# Altium footprint library SMD Active.PcbLib: 72 footprints (part 7 of 8)
Each footprint in its own frame and in the unit in brackets; x right, y up, seen from the top. Pads: shape width x height; smd on the part's side, far side on the other; paste and mask are expansions set on the pad; w line width, h text height; cw(c..) or ccw(c..) is an arc to the next point about the centre after c.
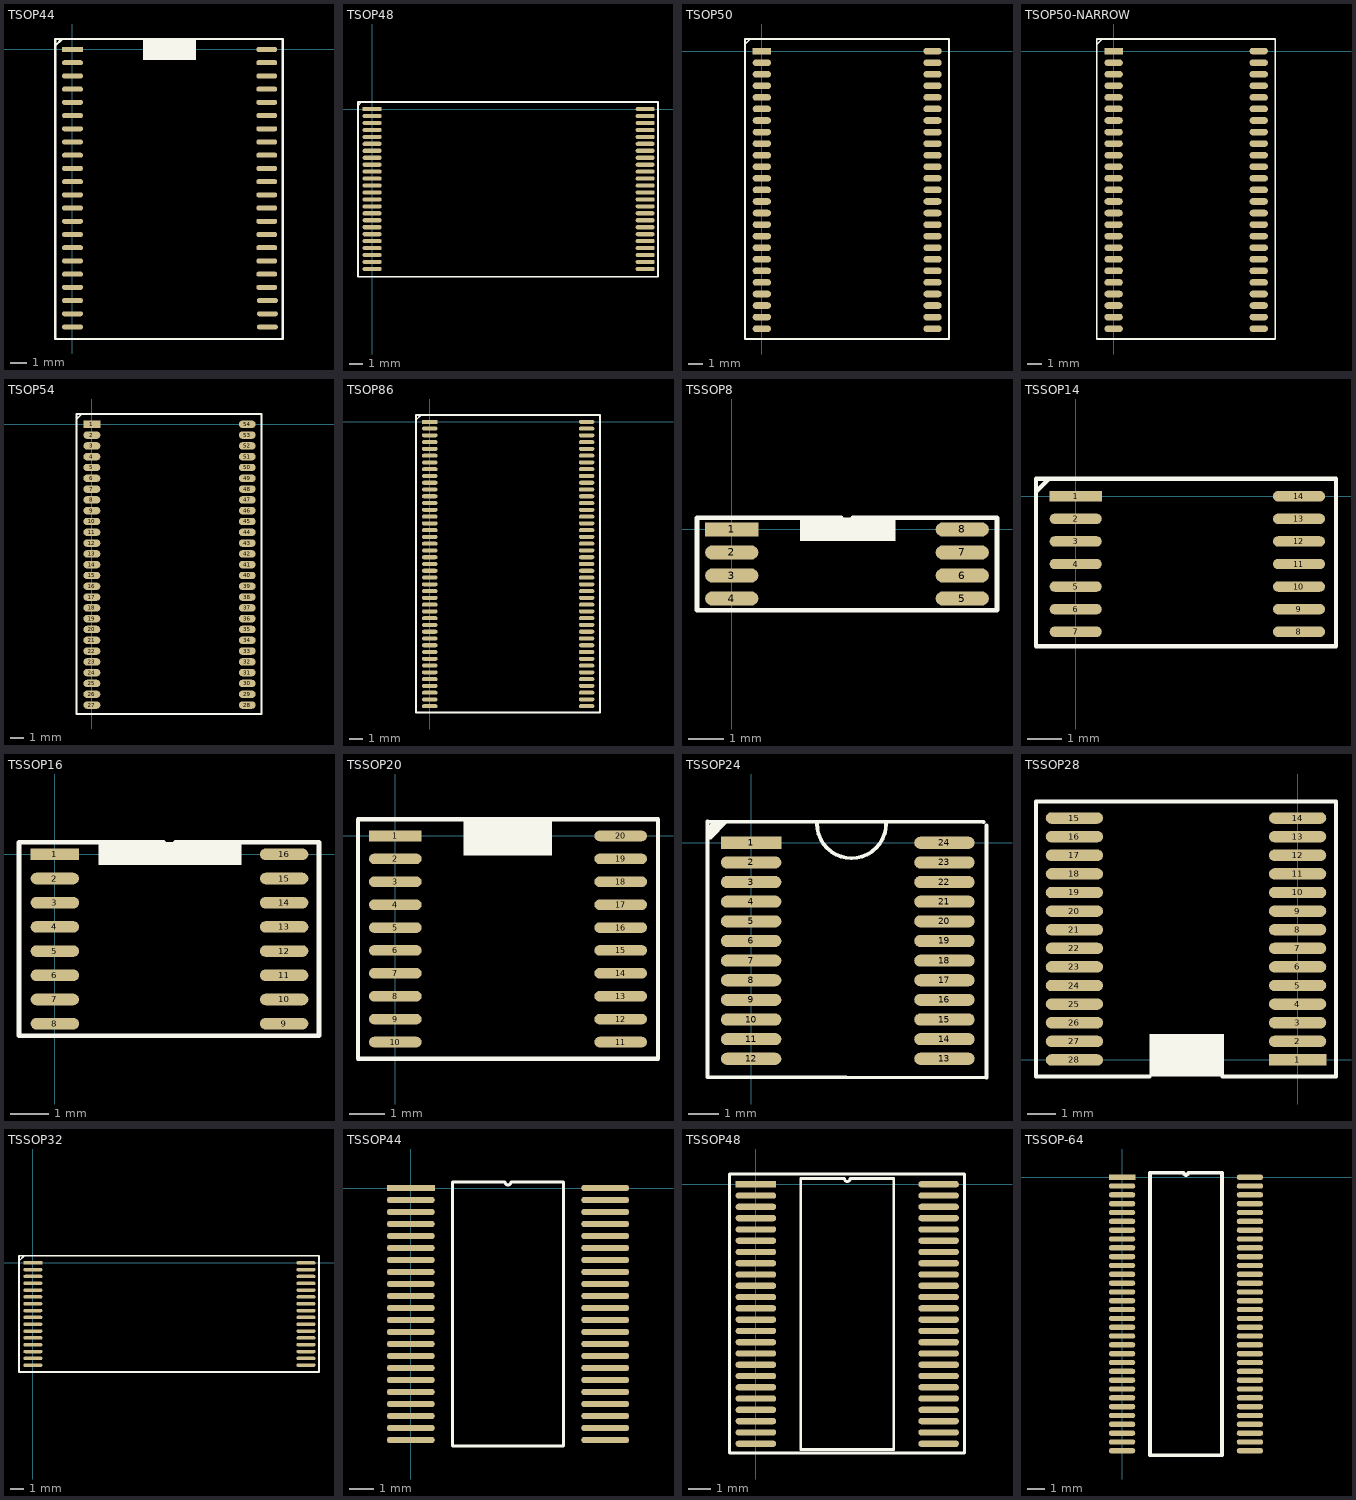
[diagram p6: the footprints below, top view; thin cyan lines are the x and y axes]

## TSOP44 [mil]
pads (44):
  rect 50x12 smd: 1(0,0)
  oval 50x12 smd: 2(0,-31.5) 3(0,-62.99) 4(0,-94.49) 5(0,-125.98) 6(0,-157.48) 7(0,-188.98) 8(0,-220.47) 9(0,-251.97) 10(0,-283.46) 11(0,-314.96) 12(0,-346.46) 13(0,-377.95) 14(0,-409.45) 15(0,-440.94) 16(0,-472.44) 17(0,-503.94) 18(0,-535.43) 19(0,-566.93) 20(0,-598.43) 21(0,-629.92) 22(0,-661.42) 23(464.57,-661.42) 24(464.57,-629.92) 25(464.57,-598.43) 26(462.99,-566.93) 27(462.99,-535.43) 28(462.99,-503.94) 29(462.99,-472.44) 30(462.99,-440.95) 31(462.99,-409.45) 32(462.99,-377.95) 33(462.99,-346.46) 34(462.99,-314.96) 35(462.99,-283.47) 36(462.99,-251.97) 37(462.99,-220.47) 38(462.99,-188.98) 39(462.99,-157.48) 40(462.99,-125.99) 41(462.99,-94.49) 42(462.99,-62.99) 43(462.99,-31.5) 44(462.99,0)
Top Overlay:
  rectangle: 168.31,-24.61 294.29,25
  lines w5: -41,7 -41,9 -25,25 ; -41,-690 -41,25 501,25 501,-690 -41,-690
3D body: height 12, standoff 0, extent -4,-5.68 18,6.32
3D body: height 25, standoff 12, extent 9.5,-5.68 42,6.32
3D body: height 12, standoff 0, extent -4,-37.18 18,-25.18
3D body: height 25, standoff 12, extent 9.5,-37.18 42,-25.18
3D body: height 12, standoff 0, extent -4,-68.68 18,-56.68
3D body: height 25, standoff 12, extent 9.5,-68.68 42,-56.68
3D body: height 12, standoff 0, extent -4,-100.17 18,-88.17
3D body: height 25, standoff 12, extent 9.5,-100.17 42,-88.17
3D body: height 25, standoff 12, extent 9.5,-226.16 42,-214.16
3D body: height 12, standoff 0, extent -4,-226.16 18,-214.16
3D body: height 25, standoff 12, extent 9.5,-194.66 42,-182.66
3D body: height 12, standoff 0, extent -4,-194.66 18,-182.66
3D body: height 25, standoff 12, extent 9.5,-163.16 42,-151.16
3D body: height 12, standoff 0, extent -4,-163.16 18,-151.16
3D body: height 25, standoff 12, extent 9.5,-131.67 42,-119.67
3D body: height 12, standoff 0, extent -4,-131.67 18,-119.67
3D body: height 25, standoff 12, extent 9.5,-352.14 42,-340.14
3D body: height 12, standoff 0, extent -4,-352.14 18,-340.14
3D body: height 25, standoff 12, extent 9.5,-320.65 42,-308.65
3D body: height 12, standoff 0, extent -4,-320.65 18,-308.65
3D body: height 25, standoff 12, extent 9.5,-289.15 42,-277.15
3D body: height 12, standoff 0, extent -4,-289.15 18,-277.15
3D body: height 25, standoff 12, extent 9.5,-257.65 42,-245.65
3D body: height 12, standoff 0, extent -4,-257.65 18,-245.65
3D body: height 25, standoff 12, extent 9.5,-478.13 42,-466.13
3D body: height 12, standoff 0, extent -4,-478.13 18,-466.13
3D body: height 25, standoff 12, extent 9.5,-446.63 42,-434.63
3D body: height 12, standoff 0, extent -4,-446.63 18,-434.63
3D body: height 25, standoff 12, extent 9.5,-415.13 42,-403.13
3D body: height 12, standoff 0, extent -4,-415.13 18,-403.13
3D body: height 25, standoff 12, extent 9.5,-383.64 42,-371.64
3D body: height 12, standoff 0, extent -4,-383.64 18,-371.64
3D body: height 25, standoff 12, extent 9.5,-604.11 42,-592.11
3D body: height 12, standoff 0, extent -4,-604.11 18,-592.11
3D body: height 25, standoff 12, extent 9.5,-572.61 42,-560.61
3D body: height 12, standoff 0, extent -4,-572.61 18,-560.61
3D body: height 25, standoff 12, extent 9.5,-541.12 42,-529.12
3D body: height 12, standoff 0, extent -4,-541.12 18,-529.12
3D body: height 25, standoff 12, extent 9.5,-509.62 42,-497.62
3D body: height 12, standoff 0, extent -4,-509.62 18,-497.62
3D body: height 25, standoff 12, extent 9.5,-667.1 42,-655.1
3D body: height 12, standoff 0, extent -4,-667.1 18,-655.1
3D body: height 25, standoff 12, extent 9.5,-635.61 42,-623.61
3D body: height 12, standoff 0, extent -4,-635.61 18,-623.61
3D body: height 12, standoff 0, extent 444.99,-37.81 466.99,-25.81
3D body: height 25, standoff 12, extent 420.99,-37.81 453.49,-25.81
3D body: height 12, standoff 0, extent 444.99,-6.32 466.99,5.68
3D body: height 25, standoff 12, extent 420.99,-6.32 453.49,5.68
3D body: height 12, standoff 0, extent 444.99,-163.8 466.99,-151.8
3D body: height 25, standoff 12, extent 420.99,-163.8 453.49,-151.8
3D body: height 12, standoff 0, extent 444.99,-132.3 466.99,-120.3
3D body: height 25, standoff 12, extent 420.99,-132.3 453.49,-120.3
3D body: height 12, standoff 0, extent 444.99,-100.8 466.99,-88.8
3D body: height 25, standoff 12, extent 420.99,-100.8 453.49,-88.8
3D body: height 12, standoff 0, extent 444.99,-69.31 466.99,-57.31
3D body: height 25, standoff 12, extent 420.99,-69.31 453.49,-57.31
3D body: height 12, standoff 0, extent 444.99,-289.78 466.99,-277.78
3D body: height 25, standoff 12, extent 420.99,-289.78 453.49,-277.78
3D body: height 12, standoff 0, extent 444.99,-258.29 466.99,-246.29
3D body: height 25, standoff 12, extent 420.99,-258.29 453.49,-246.29
3D body: height 12, standoff 0, extent 444.99,-226.79 466.99,-214.79
3D body: height 25, standoff 12, extent 420.99,-226.79 453.49,-214.79
3D body: height 12, standoff 0, extent 444.99,-195.29 466.99,-183.29
3D body: height 25, standoff 12, extent 420.99,-195.29 453.49,-183.29
3D body: height 12, standoff 0, extent 444.99,-415.77 466.99,-403.77
3D body: height 25, standoff 12, extent 420.99,-415.77 453.49,-403.77
3D body: height 12, standoff 0, extent 444.99,-384.27 466.99,-372.27
3D body: height 25, standoff 12, extent 420.99,-384.27 453.49,-372.27
3D body: height 12, standoff 0, extent 444.99,-352.77 466.99,-340.77
3D body: height 25, standoff 12, extent 420.99,-352.77 453.49,-340.77
3D body: height 12, standoff 0, extent 444.99,-321.28 466.99,-309.28
3D body: height 25, standoff 12, extent 420.99,-321.28 453.49,-309.28
3D body: height 12, standoff 0, extent 444.99,-541.75 466.99,-529.75
3D body: height 25, standoff 12, extent 420.99,-541.75 453.49,-529.75
3D body: height 12, standoff 0, extent 444.99,-510.25 466.99,-498.25
3D body: height 25, standoff 12, extent 420.99,-510.25 453.49,-498.25
3D body: height 12, standoff 0, extent 444.99,-478.76 466.99,-466.76
3D body: height 25, standoff 12, extent 420.99,-478.76 453.49,-466.76
3D body: height 12, standoff 0, extent 444.99,-447.26 466.99,-435.26
3D body: height 25, standoff 12, extent 420.99,-447.26 453.49,-435.26
3D body: height 25, standoff 12, extent 420.99,-573.25 453.49,-561.25
3D body: height 12, standoff 0, extent 444.99,-573.25 466.99,-561.25
3D body: height 25, standoff 12, extent 420.99,-604.74 453.49,-592.74
3D body: height 12, standoff 0, extent 444.99,-604.74 466.99,-592.74
3D body: height 25, standoff 12, extent 420.99,-636.24 453.49,-624.24
3D body: height 12, standoff 0, extent 444.99,-636.24 466.99,-624.24
3D body: height 25, standoff 12, extent 420.99,-667.73 453.49,-655.73
3D body: height 12, standoff 0, extent 444.99,-667.73 466.99,-655.73
3D body: height 40, standoff 0, extent 39.04,-685 423,24
3D body: height 41, standoff 40, extent 195.5,-9 273.5,16

## TSOP48 [mil]
pads (48):
  rect 54x12 smd: 1(0,0)
  oval 54x12 smd: 2(0,-19.68) 3(0,-39.37) 4(0,-59.05) 5(0,-78.74) 6(0,-98.42) 7(0,-118.11) 8(0,-137.79) 9(0,-157.48) 10(0,-177.16) 11(0,-196.85) 12(0,-216.53) 13(0,-236.22) 14(0,-255.91) 15(0,-275.59) 16(0,-295.27) 17(0,-314.96) 18(0,-334.64) 19(0,-354.33) 20(0,-374.01) 21(0,-393.7) 22(0,-413.38) 23(0,-433.07) 24(0,-452.75) 25(773.62,-452.75) 26(773.62,-433.07) 27(773.62,-413.38) 28(773.62,-393.7) 29(773.62,-374.01) 30(773.62,-354.33) 31(773.62,-334.64) 32(773.62,-314.96) 33(773.62,-295.27) 34(773.62,-275.59) 35(773.62,-255.91) 36(773.62,-236.22) 37(773.62,-216.53) 38(773.62,-196.85) 39(773.62,-177.16) 40(773.62,-157.48) 41(773.62,-137.79) 42(773.62,-118.11) 43(773.62,-98.42) 44(773.62,-78.74) 45(773.62,-59.05) 46(773.62,-39.37) 47(773.62,-19.68) 48(773.62,0)
Top Overlay:
  lines w5: -40,10 -30,20 -40,20 ; -40,20 -40,-475 810,-475 810,20 -40,20

## TSOP50 [mm]
pads (50):
  rect 1.27x0.457 smd: 1(0,0)
  oval 1.27x0.457 smd: 2(0,-0.8) 3(0,-1.6) 4(0,-2.4) 5(0,-3.2) 6(0,-4) 7(0,-4.8) 8(0,-5.6) 9(0,-6.4) 10(0,-7.2) 11(0,-8) 12(0,-8.8) 13(0,-9.6) 14(0,-10.4) 15(0,-11.2) 16(0,-12) 17(0,-12.8) 18(0,-13.6) 19(0,-14.4) 20(0,-15.2) 21(0,-16) 22(0,-16.8) 23(0,-17.6) 24(0,-18.4) 25(0,-19.2) 26(11.81,-19.2) 27(11.81,-18.4) 28(11.81,-17.6) 29(11.81,-16.8) 30(11.81,-16) 31(11.81,-15.2) 32(11.81,-14.4) 33(11.81,-13.6) 34(11.81,-12.8) 35(11.81,-12) 36(11.81,-11.2) 37(11.81,-10.4) 38(11.81,-9.6) 39(11.81,-8.8) 40(11.81,-8) 41(11.81,-7.2) 42(11.81,-6.4) 43(11.81,-5.6) 44(11.81,-4.8) 45(11.81,-4) 46(11.81,-3.2) 47(11.81,-2.4) 48(11.81,-1.6) 49(11.81,-0.8) 50(11.81,0)
Top Overlay:
  lines w0.127: -1.168,0.457 -0.787,0.838 -1.168,0.838 ; -1.168,0.838 12.951,0.838 12.951,-19.914 -1.168,-19.914 -1.168,0.838

## TSOP50-NARROW [mm]
pads (50):
  rect 1.27x0.457 smd: 1(0,0)
  oval 1.27x0.457 smd: 2(0,-0.8) 3(0,-1.6) 4(0,-2.4) 5(0,-3.2) 6(0,-4) 7(0,-4.8) 8(0,-5.6) 9(0,-6.4) 10(0,-7.2) 11(0,-8) 12(0,-8.8) 13(0,-9.6) 14(0,-10.4) 15(0,-11.2) 16(0,-12) 17(0,-12.8) 18(0,-13.6) 19(0,-14.4) 20(0,-15.2) 21(0,-16) 22(0,-16.8) 23(0,-17.6) 24(0,-18.4) 25(0,-19.2) 26(10.035,-19.2) 27(10.035,-18.4) 28(10.035,-17.6) 29(10.035,-16.8) 30(10.035,-16) 31(10.035,-15.2) 32(10.035,-14.4) 33(10.035,-13.6) 34(10.035,-12.8) 35(10.035,-12) 36(10.035,-11.2) 37(10.035,-10.4) 38(10.035,-9.6) 39(10.035,-8.8) 40(10.035,-8) 41(10.035,-7.2) 42(10.035,-6.4) 43(10.035,-5.6) 44(10.035,-4.8) 45(10.035,-4) 46(10.035,-3.2) 47(10.035,-2.4) 48(10.035,-1.6) 49(10.035,-0.8) 50(10.035,0)
Top Overlay:
  lines w0.127: -1.168,0.457 -0.787,0.838 -1.168,0.838 ; -1.168,0.838 -1.168,-19.914 11.176,-19.914 11.176,0.838 -1.168,0.838

## TSOP54 [mm]
pads (54):
  rect 1.25x0.55 smd: 1(0,0)
  oval 1.25x0.55 smd: 2(0,-0.8) 3(0,-1.6) 4(0,-2.4) 5(0,-3.2) 6(0,-4) 7(0,-4.8) 8(0,-5.6) 9(0,-6.4) 10(0,-7.2) 11(0,-8) 12(0,-8.8) 13(0,-9.6) 14(0,-10.4) 15(0,-11.2) 16(0,-12) 17(0,-12.8) 18(0,-13.6) 19(0,-14.4) 20(0,-15.2) 21(0,-16) 22(0,-16.8) 23(0,-17.6) 24(0,-18.4) 25(0,-19.2) 26(0,-20) 27(0,-20.8) 28(11.51,-20.8) 29(11.51,-20) 30(11.51,-19.2) 31(11.51,-18.4) 32(11.51,-17.6) 33(11.51,-16.8) 34(11.51,-16) 35(11.51,-15.2) 36(11.51,-14.4) 37(11.51,-13.6) 38(11.51,-12.8) 39(11.51,-12) 40(11.51,-11.2) 41(11.51,-10.4) 42(11.51,-9.6) 43(11.51,-8.8) 44(11.51,-8) 45(11.51,-7.2) 46(11.51,-6.4) 47(11.51,-5.6) 48(11.51,-4.8) 49(11.51,-4) 50(11.51,-3.2) 51(11.51,-2.4) 52(11.51,-1.6) 53(11.51,-0.8) 54(11.51,0)
Top Overlay:
  lines w0.127: -1.143,0.381 -0.762,0.762 -1.143,0.762 ; -1.143,0.762 -1.143,-21.463 12.573,-21.463 12.573,0.762 -1.143,0.762

## TSOP86 [mm]
pads (86):
  rect 1.15x0.3 smd: 1(0,0)
  oval 1.15x0.3 smd: 2(0,-0.5) 3(0,-1) 4(0,-1.5) 5(0,-2) 6(0,-2.5) 7(0,-3) 8(0,-3.5) 9(0,-4) 10(0,-4.5) 11(0,-5) 12(0,-5.5) 13(0,-6) 14(0,-6.5) 15(0,-7) 16(0,-7.5) 17(0,-8) 18(0,-8.5) 19(0,-9) 20(0,-9.5) 21(0,-10) 22(0,-10.5) 23(0,-11) 24(0,-11.5) 25(0,-12) 26(0,-12.5) 27(0,-13) 28(0,-13.5) 29(0,-14) 30(0,-14.5) 31(0,-15) 32(0,-15.5) 33(0,-16) 34(0,-16.5) 35(0,-17) 36(0,-17.5) 37(0,-18) 38(0,-18.5) 39(0,-19) 40(0,-19.5) 41(0,-20) 42(0,-20.5) 43(0,-21) 44(11.579,-21) 45(11.579,-20.5) 46(11.579,-20) 47(11.579,-19.5) 48(11.579,-19) 49(11.579,-18.5) 50(11.579,-18) 51(11.579,-17.5) 52(11.579,-17) 53(11.579,-16.5) 54(11.579,-16) 55(11.579,-15.5) 56(11.579,-15) 57(11.579,-14.5) 58(11.579,-14) 59(11.579,-13.5) 60(11.579,-13) 61(11.579,-12.5) 62(11.579,-12) 63(11.579,-11.5) 64(11.579,-11) 65(11.579,-10.5) 66(11.579,-10) 67(11.579,-9.5) 68(11.579,-9) 69(11.579,-8.5) 70(11.579,-8) 71(11.579,-7.5) 72(11.579,-7) 73(11.579,-6.5) 74(11.579,-6) 75(11.579,-5.5) 76(11.579,-5) 77(11.579,-4.5) 78(11.579,-4) 79(11.579,-3.5) 80(11.579,-3) 81(11.579,-2.5) 82(11.579,-2) 83(11.579,-1.5) 84(11.579,-1) 85(11.579,-0.5) 86(11.579,0)
Top Overlay:
  lines w0.127: -1.016,0.127 -0.635,0.508 -1.016,0.508 ; -1.016,0.508 -1.016,-21.463 12.573,-21.463 12.573,0.508 -1.016,0.508

## TSSOP8 [mm]
pads (8):
  rect 1.5x0.4 smd: 1(0,0)
  oval 1.5x0.4 smd: 2(0,-0.65) 3(0,-1.3) 4(0,-1.95) 5(6.5,-1.95) 6(6.5,-1.3) 7(6.5,-0.65) 8(6.5,0)
Top Overlay:
  rectangle: 1.93,-0.33 4.623,0.33
  lines w0.127: 3.087,0.325 -0.98,0.325 -0.98,-2.275 7.48,-2.275 7.48,0.325 3.412,0.325
3D body: height 0.3, standoff 0, extent 5.956,-0.178 6.515,0.127
3D body: height 0.64, standoff 0.3, extent 5.347,-0.178 6.172,0.127
3D body: height 0.3, standoff 0, extent 5.956,-0.813 6.515,-0.508
3D body: height 0.64, standoff 0.3, extent 5.347,-0.813 6.172,-0.508
3D body: height 0.3, standoff 0, extent 5.956,-1.448 6.515,-1.143
3D body: height 0.64, standoff 0.3, extent 5.347,-1.448 6.172,-1.143
3D body: height 0.3, standoff 0, extent 5.956,-2.083 6.515,-1.778
3D body: height 0.64, standoff 0.3, extent 5.347,-2.083 6.172,-1.778
3D body: height 0.3, standoff 0, extent -0.064,-2.083 0.495,-1.778
3D body: height 0.64, standoff 0.3, extent 0.279,-2.083 1.105,-1.778
3D body: height 0.3, standoff 0, extent -0.064,-1.448 0.495,-1.143
3D body: height 0.64, standoff 0.3, extent 0.279,-1.448 1.105,-1.143
3D body: height 0.3, standoff 0, extent -0.064,-0.813 0.495,-0.508
3D body: height 0.64, standoff 0.3, extent 0.279,-0.813 1.105,-0.508
3D body: height 1.04, standoff 1.02, extent 2.222,-0.381 4.204,0.254
3D body: height 0.64, standoff 0.3, extent 0.279,-0.178 1.105,0.127
3D body: height 0.3, standoff 0, extent -0.064,-0.178 0.495,0.127
3D body: height 1.02, standoff 0, extent 0.826,-2.261 5.601,0.305

## TSSOP14 [mm]
pads (14):
  rect 1.5x0.3 smd: 1(0,0)
  oval 1.5x0.3 smd: 2(0,-0.65) 3(0,-1.3) 4(0,-1.95) 5(0,-2.6) 6(0,-3.25) 7(0,-3.9) 8(6.426,-3.9) 9(6.426,-3.25) 10(6.426,-2.6) 11(6.426,-1.95) 12(6.426,-1.3) 13(6.426,-0.65) 14(6.426,0)
Top Overlay:
  lines w0.127: -1.143,0.127 -0.762,0.508 -1.143,0.508 ; -1.143,0.508 7.493,0.508 7.493,-4.318 -1.143,-4.318 -1.143,0.508
3D body: height 1.02, standoff 0, extent 0.774,-4.318 5.55,0.508
3D body: height 0.3, standoff 0, extent -0.114,-0.178 0.445,0.127
3D body: height 0.64, standoff 0.3, extent 0.229,-0.178 1.054,0.127
3D body: height 1.04, standoff 1.02, extent 2.172,-0.381 4.153,0.254
3D body: height 0.64, standoff 0.3, extent 0.229,-0.813 1.054,-0.508
3D body: height 0.3, standoff 0, extent -0.114,-0.813 0.445,-0.508
3D body: height 0.64, standoff 0.3, extent 0.229,-1.448 1.054,-1.143
3D body: height 0.3, standoff 0, extent -0.114,-1.448 0.445,-1.143
3D body: height 0.64, standoff 0.3, extent 0.229,-2.083 1.054,-1.778
3D body: height 0.3, standoff 0, extent -0.114,-2.083 0.445,-1.778
3D body: height 0.64, standoff 0.3, extent 0.229,-2.718 1.054,-2.413
3D body: height 0.3, standoff 0, extent -0.114,-2.718 0.445,-2.413
3D body: height 0.64, standoff 0.3, extent 0.229,-3.353 1.054,-3.048
3D body: height 0.3, standoff 0, extent -0.114,-3.353 0.445,-3.048
3D body: height 0.64, standoff 0.3, extent 0.229,-3.988 1.054,-3.683
3D body: height 0.3, standoff 0, extent -0.114,-3.988 0.445,-3.683
3D body: height 0.64, standoff 0.3, extent 5.296,-3.988 6.121,-3.683
3D body: height 0.3, standoff 0, extent 5.905,-3.988 6.464,-3.683
3D body: height 0.64, standoff 0.3, extent 5.296,-3.353 6.121,-3.048
3D body: height 0.3, standoff 0, extent 5.905,-3.353 6.464,-3.048
3D body: height 0.64, standoff 0.3, extent 5.296,-2.718 6.121,-2.413
3D body: height 0.3, standoff 0, extent 5.905,-2.718 6.464,-2.413
3D body: height 0.64, standoff 0.3, extent 5.296,-2.083 6.121,-1.778
3D body: height 0.3, standoff 0, extent 5.905,-2.083 6.464,-1.778
3D body: height 0.64, standoff 0.3, extent 5.296,-1.448 6.121,-1.143
3D body: height 0.3, standoff 0, extent 5.905,-1.448 6.464,-1.143
3D body: height 0.64, standoff 0.3, extent 5.296,-0.813 6.121,-0.508
3D body: height 0.3, standoff 0, extent 5.905,-0.813 6.464,-0.508
3D body: height 0.64, standoff 0.3, extent 5.296,-0.178 6.121,0.127
3D body: height 0.3, standoff 0, extent 5.905,-0.178 6.464,0.127

## TSSOP16 [mil]
pads (16):
  rect 50x12 smd: 1(0,0)
  oval 50x12 smd: 2(0,-25) 3(0,-50) 4(0,-75) 5(0,-100) 6(0,-125) 7(0,-150) 8(0,-175) 9(237,-175) 10(237,-150) 11(237,-125) 12(237,-100) 13(237,-75) 14(237,-50) 15(237,-25) 16(237,0)
Top Overlay:
  rectangle: 45,-11 193,12.5
  lines w5: 112.25,12.5 -37,12.5 -37,-187.5 273,-187.5 273,12.5 124.75,12.5
3D body: height 40, standoff 0, extent 24.04,-188 212,13
3D body: height 12, standoff 0, extent -11,-6 11,6
3D body: height 25, standoff 12, extent 2.5,-6 35,6
3D body: height 41, standoff 40, extent 79,-14 157,11
3D body: height 25, standoff 12, extent 2.5,-31 35,-19
3D body: height 12, standoff 0, extent -11,-31 11,-19
3D body: height 25, standoff 12, extent 2.5,-56 35,-44
3D body: height 12, standoff 0, extent -11,-56 11,-44
3D body: height 25, standoff 12, extent 2.5,-81 35,-69
3D body: height 12, standoff 0, extent -11,-81 11,-69
3D body: height 25, standoff 12, extent 2.5,-106 35,-94
3D body: height 12, standoff 0, extent -11,-106 11,-94
3D body: height 25, standoff 12, extent 2.5,-131 35,-119
3D body: height 12, standoff 0, extent -11,-131 11,-119
3D body: height 25, standoff 12, extent 2.5,-156 35,-144
3D body: height 12, standoff 0, extent -11,-156 11,-144
3D body: height 25, standoff 12, extent 2.5,-181 35,-169
3D body: height 12, standoff 0, extent -11,-181 11,-169
3D body: height 25, standoff 12, extent 202,-181 234.5,-169
3D body: height 12, standoff 0, extent 226,-181 248,-169
3D body: height 25, standoff 12, extent 202,-156 234.5,-144
3D body: height 12, standoff 0, extent 226,-156 248,-144
3D body: height 25, standoff 12, extent 202,-131 234.5,-119
3D body: height 12, standoff 0, extent 226,-131 248,-119
3D body: height 25, standoff 12, extent 202,-106 234.5,-94
3D body: height 12, standoff 0, extent 226,-106 248,-94
3D body: height 25, standoff 12, extent 202,-81 234.5,-69
3D body: height 12, standoff 0, extent 226,-81 248,-69
3D body: height 25, standoff 12, extent 202,-56 234.5,-44
3D body: height 12, standoff 0, extent 226,-56 248,-44
3D body: height 25, standoff 12, extent 202,-31 234.5,-19
3D body: height 12, standoff 0, extent 226,-31 248,-19
3D body: height 25, standoff 12, extent 202,-6 234.5,6
3D body: height 12, standoff 0, extent 226,-6 248,6

## TSSOP20 [mm]
pads (20):
  rect 1.5x0.3 smd: 1(0,0)
  oval 1.5x0.3 smd: 2(0,-0.65) 3(0,-1.3) 4(0,-1.95) 5(0,-2.6) 6(0,-3.25) 7(0,-3.9) 8(0,-4.55) 9(0,-5.2) 10(0,-5.85) 11(6.4,-5.85) 12(6.4,-5.2) 13(6.4,-4.55) 14(6.4,-3.9) 15(6.4,-3.25) 16(6.4,-2.6) 17(6.4,-1.95) 18(6.4,-1.3) 19(6.4,-0.65) 20(6.4,0)
Top Overlay:
  rectangle: 1.93,-0.559 4.445,0.479
  lines w0.127: -1.059,0 -1.059,0.055 ; -0.635,0.479 -1.059,0.479 ; -1.059,0.479 7.459,0.479 7.459,-6.329 -1.059,-6.329 -1.059,0.479
3D body: height 0.64, standoff 0.3, extent 0.241,-5.359 1.067,-5.055
3D body: height 0.3, standoff 0, extent -0.102,-5.359 0.457,-5.055
3D body: height 0.64, standoff 0.3, extent 0.241,-5.994 1.067,-5.69
3D body: height 0.3, standoff 0, extent -0.102,-5.994 0.457,-5.69
3D body: height 0.64, standoff 0.3, extent 5.309,-5.994 6.134,-5.69
3D body: height 0.3, standoff 0, extent 5.918,-5.994 6.477,-5.69
3D body: height 0.64, standoff 0.3, extent 5.309,-5.359 6.134,-5.055
3D body: height 0.3, standoff 0, extent 5.918,-5.359 6.477,-5.055
3D body: height 0.3, standoff 0, extent 5.931,-0.152 6.49,0.152
3D body: height 0.64, standoff 0.3, extent 5.321,-0.152 6.147,0.152
3D body: height 0.3, standoff 0, extent 5.931,-0.787 6.49,-0.483
3D body: height 0.64, standoff 0.3, extent 5.321,-0.787 6.147,-0.483
3D body: height 0.3, standoff 0, extent 5.931,-1.448 6.49,-1.143
3D body: height 0.64, standoff 0.3, extent 5.321,-1.448 6.147,-1.143
3D body: height 0.3, standoff 0, extent 5.931,-2.108 6.49,-1.803
3D body: height 0.64, standoff 0.3, extent 5.321,-2.108 6.147,-1.803
3D body: height 0.3, standoff 0, extent 5.931,-2.743 6.49,-2.438
3D body: height 0.64, standoff 0.3, extent 5.321,-2.743 6.147,-2.438
3D body: height 0.3, standoff 0, extent 5.931,-3.404 6.49,-3.099
3D body: height 0.64, standoff 0.3, extent 5.321,-3.404 6.147,-3.099
3D body: height 0.3, standoff 0, extent 5.931,-4.064 6.49,-3.759
3D body: height 0.64, standoff 0.3, extent 5.321,-4.064 6.147,-3.759
3D body: height 0.3, standoff 0, extent 5.931,-4.699 6.49,-4.394
3D body: height 0.64, standoff 0.3, extent 5.321,-4.699 6.147,-4.394
3D body: height 0.3, standoff 0, extent -0.089,-4.699 0.47,-4.394
3D body: height 0.64, standoff 0.3, extent 0.254,-4.699 1.079,-4.394
3D body: height 0.3, standoff 0, extent -0.089,-4.064 0.47,-3.759
3D body: height 0.64, standoff 0.3, extent 0.254,-4.064 1.079,-3.759
3D body: height 0.3, standoff 0, extent -0.089,-3.404 0.47,-3.099
3D body: height 0.64, standoff 0.3, extent 0.254,-3.404 1.079,-3.099
3D body: height 0.3, standoff 0, extent -0.089,-2.743 0.47,-2.438
3D body: height 0.64, standoff 0.3, extent 0.254,-2.743 1.079,-2.438
3D body: height 0.3, standoff 0, extent -0.089,-2.108 0.47,-1.803
3D body: height 0.64, standoff 0.3, extent 0.254,-2.108 1.079,-1.803
3D body: height 0.3, standoff 0, extent -0.089,-1.448 0.47,-1.143
3D body: height 0.64, standoff 0.3, extent 0.254,-1.448 1.079,-1.143
3D body: height 0.3, standoff 0, extent -0.089,-0.787 0.47,-0.483
3D body: height 0.64, standoff 0.3, extent 0.254,-0.787 1.079,-0.483
3D body: height 1.04, standoff 1.02, extent 2.197,-0.356 4.178,0.279
3D body: height 0.64, standoff 0.3, extent 0.254,-0.152 1.079,0.152
3D body: height 0.3, standoff 0, extent -0.089,-0.152 0.47,0.152
3D body: height 1.02, standoff 0, extent 0.801,-6.325 5.575,0.33

## TSSOP24 [mm]
pads (24):
  rect 2x0.4 smd: 1(0,0)
  oval 2x0.4 smd: 2(0,-0.65) 3(0,-1.3) 4(0,-1.95) 5(0,-2.6) 6(0,-3.25) 7(0,-3.9) 8(0,-4.55) 9(0,-5.2) 10(0,-5.85) 11(0,-6.5) 12(0,-7.15) 13(6.4,-7.15) 14(6.4,-6.5) 15(6.4,-5.85) 16(6.4,-5.2) 17(6.4,-4.55) 18(6.4,-3.9) 19(6.4,-3.25) 20(6.4,-2.6) 21(6.4,-1.95) 22(6.4,-1.3) 23(6.4,-0.65) 24(6.4,0)
Top Overlay:
  lines w0.127: 2.179,0.635 ccw(c3.325,0.635) 4.47,0.635 ; 7.696,0.686 -1.446,0.706 -1.446,-7.754 7.795,-7.78 7.795,0.579 ; -1.067,0.684 -1.067,0.686 -1.067,0.684 ; -1.067,0.684 -1.446,0.305 -1.446,0.432 -1.194,0.684 -1.067,0.684 ; -1.446,0.178 -0.938,0.686 -0.838,0.686 -1.346,0.178 -1.446,0.178
3D body: height 0.3, standoff 0, extent 5.867,-6.68 6.426,-6.375
3D body: height 0.64, standoff 0.3, extent 5.258,-6.68 6.083,-6.375
3D body: height 0.3, standoff 0, extent 5.867,-7.315 6.426,-7.01
3D body: height 0.64, standoff 0.3, extent 5.258,-7.315 6.083,-7.01
3D body: height 0.3, standoff 0, extent -0.152,-7.315 0.406,-7.01
3D body: height 0.64, standoff 0.3, extent 0.191,-7.315 1.016,-7.01
3D body: height 0.3, standoff 0, extent -0.152,-6.68 0.406,-6.375
3D body: height 0.64, standoff 0.3, extent 0.191,-6.68 1.016,-6.375
3D body: height 0.64, standoff 0.3, extent 0.191,-5.385 1.016,-5.08
3D body: height 0.3, standoff 0, extent -0.152,-5.385 0.406,-5.08
3D body: height 0.64, standoff 0.3, extent 0.191,-6.02 1.016,-5.715
3D body: height 0.3, standoff 0, extent -0.152,-6.02 0.406,-5.715
3D body: height 0.64, standoff 0.3, extent 5.258,-6.02 6.083,-5.715
3D body: height 0.3, standoff 0, extent 5.867,-6.02 6.426,-5.715
3D body: height 0.64, standoff 0.3, extent 5.258,-5.385 6.083,-5.08
3D body: height 0.3, standoff 0, extent 5.867,-5.385 6.426,-5.08
3D body: height 0.3, standoff 0, extent 5.88,-0.178 6.439,0.127
3D body: height 0.64, standoff 0.3, extent 5.271,-0.178 6.096,0.127
3D body: height 0.3, standoff 0, extent 5.88,-0.813 6.439,-0.508
3D body: height 0.64, standoff 0.3, extent 5.271,-0.813 6.096,-0.508
3D body: height 0.3, standoff 0, extent 5.88,-1.473 6.439,-1.168
3D body: height 0.64, standoff 0.3, extent 5.271,-1.473 6.096,-1.168
3D body: height 0.3, standoff 0, extent 5.88,-2.134 6.439,-1.829
3D body: height 0.64, standoff 0.3, extent 5.271,-2.134 6.096,-1.829
3D body: height 0.3, standoff 0, extent 5.88,-2.769 6.439,-2.464
3D body: height 0.64, standoff 0.3, extent 5.271,-2.769 6.096,-2.464
3D body: height 0.3, standoff 0, extent 5.88,-3.429 6.439,-3.124
3D body: height 0.64, standoff 0.3, extent 5.271,-3.429 6.096,-3.124
3D body: height 0.3, standoff 0, extent 5.88,-4.089 6.439,-3.785
3D body: height 0.64, standoff 0.3, extent 5.271,-4.089 6.096,-3.785
3D body: height 0.3, standoff 0, extent 5.88,-4.724 6.439,-4.42
3D body: height 0.64, standoff 0.3, extent 5.271,-4.724 6.096,-4.42
3D body: height 0.3, standoff 0, extent -0.14,-4.724 0.419,-4.42
3D body: height 0.64, standoff 0.3, extent 0.203,-4.724 1.029,-4.42
3D body: height 0.3, standoff 0, extent -0.14,-4.089 0.419,-3.785
3D body: height 0.64, standoff 0.3, extent 0.203,-4.089 1.029,-3.785
3D body: height 0.3, standoff 0, extent -0.14,-3.429 0.419,-3.124
3D body: height 0.64, standoff 0.3, extent 0.203,-3.429 1.029,-3.124
3D body: height 0.3, standoff 0, extent -0.14,-2.769 0.419,-2.464
3D body: height 0.64, standoff 0.3, extent 0.203,-2.769 1.029,-2.464
3D body: height 0.3, standoff 0, extent -0.14,-2.134 0.419,-1.829
3D body: height 0.64, standoff 0.3, extent 0.203,-2.134 1.029,-1.829
3D body: height 0.3, standoff 0, extent -0.14,-1.473 0.419,-1.168
3D body: height 0.64, standoff 0.3, extent 0.203,-1.473 1.029,-1.168
3D body: height 0.3, standoff 0, extent -0.14,-0.813 0.419,-0.508
3D body: height 0.64, standoff 0.3, extent 0.203,-0.813 1.029,-0.508
3D body: height 1.04, standoff 1.02, extent 2.146,-0.381 4.127,0.254
3D body: height 0.64, standoff 0.3, extent 0.203,-0.178 1.029,0.127
3D body: height 0.3, standoff 0, extent -0.14,-0.178 0.419,0.127
3D body: height 1.02, standoff 0, extent 0.75,-7.569 5.524,0.305

## TSSOP28 [mm]
pads (28):
  rect 2x0.4 smd: 1(0,0)
  oval 2x0.4 smd: 2(0,0.65) 3(0,1.3) 4(0,1.95) 5(0,2.6) 6(0,3.25) 7(0,3.9) 8(0,4.55) 9(0,5.2) 10(0,5.85) 11(0,6.5) 12(0,7.15) 13(0,7.8) 14(0,8.45) 15(-7.8,8.45) 16(-7.8,7.8) 17(-7.8,7.15) 18(-7.8,6.5) 19(-7.8,5.85) 20(-7.8,5.2) 21(-7.8,4.55) 22(-7.8,3.9) 23(-7.8,3.25) 24(-7.8,2.6) 25(-7.8,1.95) 26(-7.8,1.3) 27(-7.8,0.65) 28(-7.8,0)
Top Overlay:
  rectangle: -5.17,-0.579 -2.575,0.9
  lines w0.127: -5.17,-0.579 -9.14,-0.579 -9.14,9.029 1.34,9.029 1.34,-0.579 -2.63,-0.579
3D body: height 0.3, standoff 0, extent -7.201,7.645 -6.642,7.95
3D body: height 0.64, standoff 0.3, extent -6.858,7.645 -6.032,7.95
3D body: height 0.3, standoff 0, extent -7.201,8.28 -6.642,8.585
3D body: height 0.64, standoff 0.3, extent -6.858,8.28 -6.032,8.585
3D body: height 0.3, standoff 0, extent -1.181,8.28 -0.622,8.585
3D body: height 0.64, standoff 0.3, extent -1.791,8.28 -0.965,8.585
3D body: height 0.3, standoff 0, extent -1.181,7.645 -0.622,7.95
3D body: height 0.64, standoff 0.3, extent -1.791,7.645 -0.965,7.95
3D body: height 1.02, standoff 0, extent -6.223,-0.33 -1.449,8.788
3D body: height 0.3, standoff 0, extent -1.118,-0.152 -0.559,0.152
3D body: height 0.64, standoff 0.3, extent -1.727,-0.152 -0.902,0.152
3D body: height 1.04, standoff 1.02, extent -4.826,-0.279 -2.845,0.356
3D body: height 0.64, standoff 0.3, extent -1.727,0.483 -0.902,0.787
3D body: height 0.3, standoff 0, extent -1.118,0.483 -0.559,0.787
3D body: height 0.64, standoff 0.3, extent -1.727,1.143 -0.902,1.448
3D body: height 0.3, standoff 0, extent -1.118,1.143 -0.559,1.448
3D body: height 0.64, standoff 0.3, extent -1.727,1.803 -0.902,2.108
3D body: height 0.3, standoff 0, extent -1.118,1.803 -0.559,2.108
3D body: height 0.64, standoff 0.3, extent -1.727,2.438 -0.902,2.743
3D body: height 0.3, standoff 0, extent -1.118,2.438 -0.559,2.743
3D body: height 0.64, standoff 0.3, extent -1.727,3.099 -0.902,3.404
3D body: height 0.3, standoff 0, extent -1.118,3.099 -0.559,3.404
3D body: height 0.64, standoff 0.3, extent -1.727,3.759 -0.902,4.064
3D body: height 0.3, standoff 0, extent -1.118,3.759 -0.559,4.064
3D body: height 0.64, standoff 0.3, extent -1.727,4.394 -0.902,4.699
3D body: height 0.3, standoff 0, extent -1.118,4.394 -0.559,4.699
3D body: height 0.64, standoff 0.3, extent -6.794,4.394 -5.969,4.699
3D body: height 0.3, standoff 0, extent -7.137,4.394 -6.579,4.699
3D body: height 0.64, standoff 0.3, extent -6.794,3.759 -5.969,4.064
3D body: height 0.3, standoff 0, extent -7.137,3.759 -6.579,4.064
3D body: height 0.64, standoff 0.3, extent -6.794,3.099 -5.969,3.404
3D body: height 0.3, standoff 0, extent -7.137,3.099 -6.579,3.404
3D body: height 0.64, standoff 0.3, extent -6.794,2.438 -5.969,2.743
3D body: height 0.3, standoff 0, extent -7.137,2.438 -6.579,2.743
3D body: height 0.64, standoff 0.3, extent -6.794,1.803 -5.969,2.108
3D body: height 0.3, standoff 0, extent -7.137,1.803 -6.579,2.108
3D body: height 0.64, standoff 0.3, extent -6.794,1.143 -5.969,1.448
3D body: height 0.3, standoff 0, extent -7.137,1.143 -6.579,1.448
3D body: height 0.64, standoff 0.3, extent -6.794,0.483 -5.969,0.787
3D body: height 0.3, standoff 0, extent -7.137,0.483 -6.579,0.787
3D body: height 0.64, standoff 0.3, extent -6.794,-0.152 -5.969,0.152
3D body: height 0.3, standoff 0, extent -7.137,-0.152 -6.579,0.152
3D body: height 0.3, standoff 0, extent -7.125,5.055 -6.566,5.359
3D body: height 0.64, standoff 0.3, extent -6.782,5.055 -5.956,5.359
3D body: height 0.3, standoff 0, extent -7.125,5.69 -6.566,5.994
3D body: height 0.64, standoff 0.3, extent -6.782,5.69 -5.956,5.994
3D body: height 0.3, standoff 0, extent -1.105,5.69 -0.546,5.994
3D body: height 0.64, standoff 0.3, extent -1.714,5.69 -0.889,5.994
3D body: height 0.3, standoff 0, extent -1.105,5.055 -0.546,5.359
3D body: height 0.64, standoff 0.3, extent -1.714,5.055 -0.889,5.359
3D body: height 0.64, standoff 0.3, extent -1.714,6.35 -0.889,6.655
3D body: height 0.3, standoff 0, extent -1.105,6.35 -0.546,6.655
3D body: height 0.64, standoff 0.3, extent -1.714,6.985 -0.889,7.29
3D body: height 0.3, standoff 0, extent -1.105,6.985 -0.546,7.29
3D body: height 0.64, standoff 0.3, extent -6.782,6.985 -5.956,7.29
3D body: height 0.3, standoff 0, extent -7.125,6.985 -6.566,7.29
3D body: height 0.64, standoff 0.3, extent -6.782,6.35 -5.956,6.655
3D body: height 0.3, standoff 0, extent -7.125,6.35 -6.566,6.655

## TSSOP32 [mm]
pads (32):
  rect 1.4x0.25 smd: 1(0,0)
  oval 1.4x0.25 smd: 2(0,-0.5) 3(0,-1) 4(0,-1.5) 5(0,-2) 6(0,-2.5) 7(0,-3) 8(0,-3.5) 9(0,-4) 10(0,-4.5) 11(0,-5) 12(0,-5.5) 13(0,-6) 14(0,-6.5) 15(0,-7) 16(0,-7.5) 17(20,-7.5) 18(20,-7) 19(20,-6.5) 20(20,-6) 21(20,-5.5) 22(20,-5) 23(20,-4.5) 24(20,-4) 25(20,-3.5) 26(20,-3) 27(20,-2.5) 28(20,-2) 29(20,-1.5) 30(20,-1) 31(20,-0.5) 32(20,0)
Top Overlay:
  lines w0.127: -1.016,0.127 -0.635,0.508 -1.016,0.508 ; -1.016,0.508 20.955,0.508 20.955,-8.001 -1.016,-8.001 -1.016,0.508

## TSSOP44 [mm]
pads (44):
  rect 2x0.26 smd: 1(0,0)
  oval 2x0.26 smd: 2(0,-0.5) 3(0,-1) 4(0,-1.5) 5(0,-2) 6(0,-2.5) 7(0,-3) 8(0,-3.5) 9(0,-4) 10(0,-4.5) 11(0,-5) 12(0,-5.5) 13(0,-6) 14(0,-6.5) 15(0,-7) 16(0,-7.5) 17(0,-8) 18(0,-8.5) 19(0,-9) 20(0,-9.5) 21(0,-10) 22(0,-10.5) 23(8.1,-10.5) 24(8.1,-10) 25(8.1,-9.5) 26(8.1,-9) 27(8.1,-8.5) 28(8.1,-8) 29(8.1,-7.5) 30(8.1,-7) 31(8.1,-6.5) 32(8.1,-6) 33(8.1,-5.5) 34(8.1,-5) 35(8.1,-4.5) 36(8.1,-4) 37(8.1,-3.5) 38(8.1,-3) 39(8.1,-2.5) 40(8.1,-2) 41(8.1,-1.5) 42(8.1,-1) 43(8.1,-0.5) 44(8.1,0)
Top Overlay:
  lines w0.127: 1.737,-10.75 1.737,0.25 3.925,0.25 ccw(c4.05,0.25) 4.175,0.25 6.363,0.25 6.363,-10.75 1.737,-10.75

## TSSOP48 [mm]
pads (48):
  rect 1.8x0.28 smd: 1(0,0)
  oval 1.8x0.28 smd: 2(0,-0.5) 3(0,-1) 4(0,-1.5) 5(0,-2) 6(0,-2.5) 7(0,-3) 8(0,-3.5) 9(0,-4) 10(0,-4.5) 11(0,-5) 12(0,-5.5) 13(0,-6) 14(0,-6.5) 15(0,-7) 16(0,-7.5) 17(0,-8) 18(0,-8.5) 19(0,-9) 20(0,-9.5) 21(0,-10) 22(0,-10.5) 23(0,-11) 24(0,-11.5) 25(8.1,-11.5) 26(8.1,-11) 27(8.1,-10.5) 28(8.1,-10) 29(8.1,-9.5) 30(8.1,-9) 31(8.1,-8.5) 32(8.1,-8) 33(8.1,-7.5) 34(8.1,-7) 35(8.1,-6.5) 36(8.1,-6) 37(8.1,-5.5) 38(8.1,-5) 39(8.1,-4.5) 40(8.1,-4) 41(8.1,-3.5) 42(8.1,-3) 43(8.1,-2.5) 44(8.1,-2) 45(8.1,-1.5) 46(8.1,-1) 47(8.1,-0.5) 48(8.1,0)
Top Overlay:
  lines w0.127: -1.168,-11.913 9.246,-11.913 9.246,0.457 -1.168,0.457 -1.168,-11.913 ; 1.987,-11.75 1.987,0.25 3.925,0.25 ccw(c4.05,0.25) 4.175,0.25 6.113,0.25 6.113,-11.75 1.987,-11.75

## TSSOP-64 [mm]
pads (64):
  rect 1.5x0.3 smd: 1(0,0)
  oval 1.5x0.3 smd: 2(0,-0.5) 3(0,-1) 4(0,-1.5) 5(0,-2) 6(0,-2.5) 7(0,-3) 8(0,-3.5) 9(0,-4) 10(0,-4.5) 11(0,-5) 12(0,-5.5) 13(0,-6) 14(0,-6.5) 15(0,-7) 16(0,-7.5) 17(0,-8) 18(0,-8.5) 19(0,-9) 20(0,-9.5) 21(0,-10) 22(0,-10.5) 23(0,-11) 24(0,-11.5) 25(0,-12) 26(0,-12.5) 27(0,-13) 28(0,-13.5) 29(0,-14) 30(0,-14.5) 31(0,-15) 32(0,-15.5) 33(7.25,-15.5) 34(7.25,-15) 35(7.25,-14.5) 36(7.25,-14) 37(7.25,-13.5) 38(7.25,-13) 39(7.25,-12.5) 40(7.25,-12) 41(7.25,-11.5) 42(7.25,-11) 43(7.25,-10.5) 44(7.25,-10) 45(7.25,-9.5) 46(7.25,-9) 47(7.25,-8.5) 48(7.25,-8) 49(7.25,-7.5) 50(7.25,-7) 51(7.25,-6.5) 52(7.25,-6) 53(7.25,-5.5) 54(7.25,-5) 55(7.25,-4.5) 56(7.25,-4) 57(7.25,-3.5) 58(7.25,-3) 59(7.25,-2.5) 60(7.25,-2) 61(7.25,-1.5) 62(7.25,-1) 63(7.25,-0.5) 64(7.25,0)
Top Overlay:
  lines w0.2: 1.585,-15.75 5.665,-15.75 5.665,0.25 3.75,0.25 cw(c3.625,0.25) 3.5,0.25 1.585,0.25 1.585,-15.75